# Altium integrated library 500R07S1R2BV4T.IntLib: 1 symbol
Pins are listed as number, name and electrical type; pins without a type are passive.

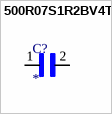
[diagram p0: symbol 500R07S1R2BV4T]

## 500R07S1R2BV4T
designator C?
1.2 pF Â±0.1pF 50V Ceramic Capacitor C0G, NP0 0402 (1005 Metric); MP: 500R07S1R2BV4T; MF: Johanson Technology; Digi-Key_Part_Number: 712-1268-2-ND; Package: 0402 Johanson; Check_prices: https://www.snapeda.com/parts/500R07S1R2BV4T/Johanson+Technology+Inc./view-part/?ref=eda; Value: *; Purchase-URL: https://pricing.snapeda.com/search/part/500R07S1R2BV4T/?ref=eda; SnapEDA_Link: https://www.snapeda.com/parts/500R07S1R2BV4T/Johanson+Technology+Inc./view-part/?ref=snap
footprint FIL_2450FM07A0029T
pins: 1, 2